# EAGLE library part LTC2947_LTC2947 (library mainboard)
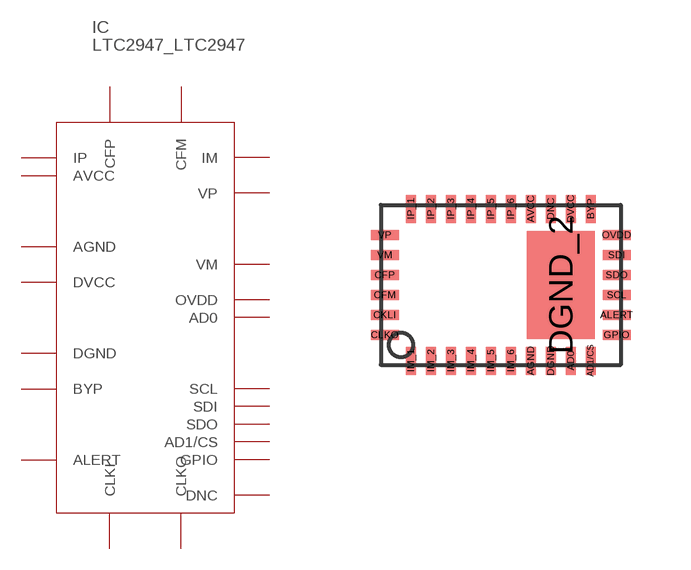
[diagram p5: symbol with the pads of LTC2947_LTC2947; footprint LTC2947_LTC2947]

Designator prefix IC

## LTC2947_LTC2947  [LTC2947_LTC2947]
AD0  AD0
AD1/CS  AD1/CS
AGND  AGND
ALERT  ALERT
AVCC  AVCC
BYP  BYP
CFM  CFM
CFP  CFP
CKLI  CLKI
CLKO  CLKO
DGND  DGND
DGND_2  DGND
DNC  DNC  nc
DVCC  DVCC
GPIO  GPIO
IM_1  IM
IM_2  IM
IM_3  IM
IM_4  IM
IM_5  IM
IM_6  IM
IP_1  IP
IP_2  IP
IP_3  IP
IP_4  IP
IP_5  IP
IP_6  IP
OVDD  OVDD
SCL  SCL
SDI  SDI
SDO  SDO
VM  VM
VP  VP

## Footprint LTC2947_LTC2947 (pad centres in mm)
smd 0.25 x 0.7: AD0 1.75,-1.9; AD1/CS 2.25,-1.9; AGND 0.75,-1.9; AVCC 0.75,1.9; BYP 2.25,1.9; DGND 1.25,-1.9; DNC 1.25,1.9; DVCC 1.75,1.9; IM_1 -2.25,-1.9; IM_2 -1.75,-1.9; IM_3 -1.25,-1.9; IM_4 -0.75,-1.9; IM_5 -0.25,-1.9; IM_6 0.25,-1.9; IP_1 -2.25,1.9; IP_2 -1.75,1.9; IP_3 -1.25,1.9; IP_4 -0.75,1.9; IP_5 -0.25,1.9; IP_6 0.25,1.9
smd 0.7 x 0.25: ALERT 2.9,-0.75; CFM -2.9,-0.25; CFP -2.9,0.25; CKLI -2.9,-0.75; CLKO -2.9,-1.25; GPIO 2.9,-1.25; OVDD 2.9,1.25; SCL 2.9,-0.25; SDI 2.9,0.75; SDO 2.9,0.25; VM -2.9,0.75; VP -2.9,1.25
smd 1.7 x 2.7: DGND_2 1.5,0